# EAGLE library part LT3599 (library Bosch_Adafruit_BNO055)
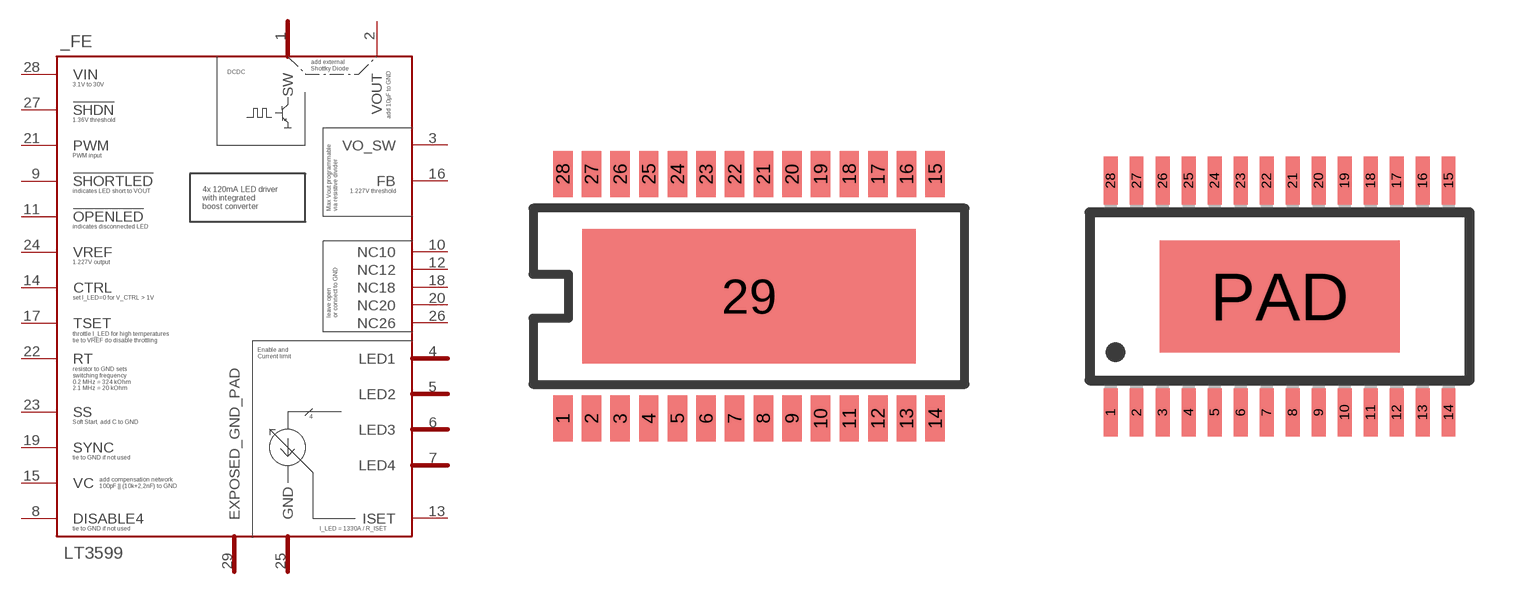
[diagram p1: symbol with the pads of TSSOP28EA(FE); footprints TSSOP28EA(FE), TSSOP28]

Designator prefix _FE

## LT3599BROKEN  [TSSOP28EA(FE)]
1  SW  pwr
2  VOUT
3  VO_SW
4  LED1  pwr
5  LED2  pwr
6  LED3  pwr
7  LED4  pwr
8  DISABLE4
9  !SHORTLED
10  NC10
11  !OPENLED
12  NC12
13  ISET
14  CTRL
15  VC
16  FB
17  TSET
18  NC18
19  SYNC
20  NC20
21  PWM
22  RT
23  SS
24  VREF
25  GND  pwr
26  NC26
27  !SHDN
28  VIN
29  EXPOSED_GND_PAD  pwr

## LT3599  [TSSOP28]
1  SW  pwr
2  VOUT
3  VO_SW
4  LED1  pwr
5  LED2  pwr
6  LED3  pwr
7  LED4  pwr
8  DISABLE4
9  !SHORTLED
10  NC10
11  !OPENLED
12  NC12
13  ISET
14  CTRL
15  VC
16  FB
17  TSET
18  NC18
19  SYNC
20  NC20
21  PWM
22  RT
23  SS
24  VREF
25  GND  pwr
26  NC26
27  !SHDN
28  VIN
PAD  EXPOSED_GND_PAD  pwr

## Footprint TSSOP28EA(FE) (pad centres in mm)
Package generated from: TSSOP28EA(FE).asc (!PADS-POWERPCB-V5.0-BASIC! DESIGN DATABASE ASCII FILE 1.0) with :import-pads-powerpcb-v5.ulp Version 1.0.1 at 04.10.2012 14:11:40
smd 0.66 x 1.575: 1 -6.338,-4.162; 2 -5.362,-4.162; 3 -4.388,-4.162; 4 -3.413,-4.162; 5 -2.438,-4.162; 6 -1.462,-4.162; 7 -0.487,-4.162; 8 0.487,-4.162; 9 1.462,-4.162; 10 2.438,-4.162; 11 3.413,-4.162; 12 4.388,-4.162; 13 5.362,-4.162; 14 6.338,-4.162; 15 6.338,4.162; 16 5.362,4.162; 17 4.388,4.162; 18 3.413,4.162; 19 2.438,4.162; 20 1.462,4.162; 21 0.487,4.162; 22 -0.487,4.162; 23 -1.462,4.162; 24 -2.438,4.162; 25 -3.413,4.162; 26 -4.388,4.162; 27 -5.362,4.162; 28 -6.338,4.162
smd 11.34 x 4.575: 29 0,0

## Footprint TSSOP28 (pad centres in mm)
28-Lead TSSOP Package RU-28
smd 0.35 x 1.2: 1 -4.225,-2.9; 2 -3.575,-2.9; 3 -2.925,-2.9; 4 -2.275,-2.9; 5 -1.625,-2.9; 6 -0.975,-2.9; 7 -0.325,-2.9; 8 0.325,-2.9; 9 0.975,-2.9; 10 1.625,-2.9; 11 2.275,-2.9; 12 2.925,-2.9; 13 3.575,-2.9; 14 4.225,-2.9; 15 4.225,2.9; 16 3.575,2.9; 17 2.925,2.9; 18 2.275,2.9; 19 1.625,2.9; 20 0.975,2.9; 21 0.325,2.9; 22 -0.325,2.9; 23 -0.975,2.9; 24 -1.625,2.9; 25 -2.275,2.9; 26 -2.925,2.9; 27 -3.575,2.9; 28 -4.225,2.9
smd 6 x 2.8: PAD 0,0